# Altium integrated library Project Board Module AM625.IntLib: 43 symbols (part 2 of 2)
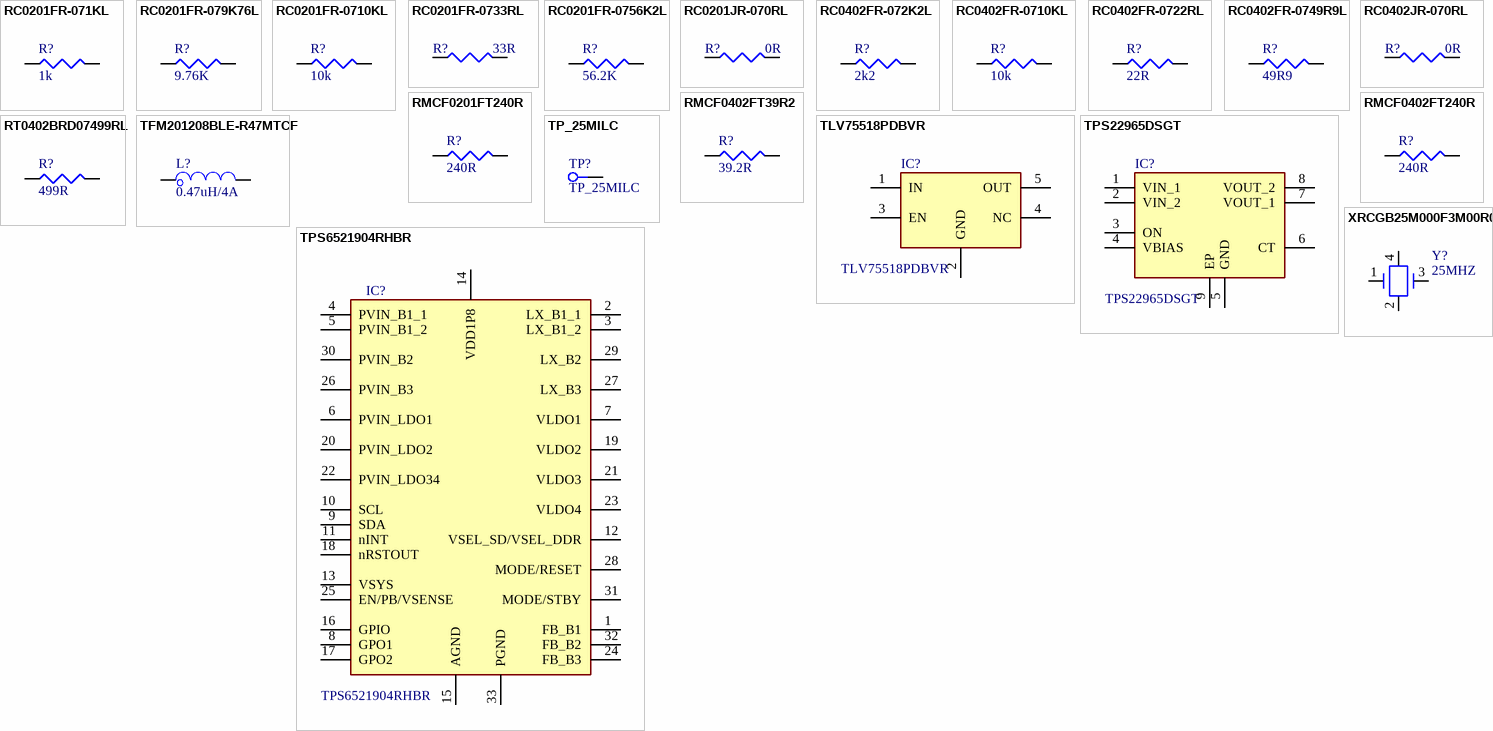
[diagram p8: symbols RC0201FR-071KL to XRCGB25M000F3M00R0]

## RC0402FR-0749R9L
designator R?, comment 49R9
RES 49.9 OHM 1/16W 1% 0402 SMD; Manufacturer: Yageo; Manufacturer Part Number: RC0402FR-0749R9L; Resistance (Ohms): 49.9; Power (Watts): 0.063W, 1/16W; Value: 49.9R; .Checked PCB: used; Temperature Coefficient: ±100ppm/°C; Category: Resistors; Supplier Part Number: 311-49.9LRCT-ND; Package / Case: 0402 (1005 Metric); Price 1k [$]: 0.01421; Tolerance: ±1%; .Checked SCH: used; Supplier: Digikey; Supplier 1: Digi-Key; Supplier Part Number 1: 311-49.9LRCT-ND; RoHS: RoHS Compliant; Stock 1: 235950; Pricing 1: 10=0.014, 50=0.0104, 100=0.0079, 250=0.00584, 500=0.00432, 1000=0.00288 (USD); Composition: Thick Film; Features: -; Size / Dimension: 0.039" L x 0.020" W (1.00mm x 0.50mm); Height: 0.016" (0.40mm); Number of Terminations: 2; Packaging: Cut Tape (CT); ComponentLink1URL: http://www.yageo.com/documents/recent/PYu-RC0402_51_RoHS_L_6.pdf; ComponentLink1Description: http://www.yageo.com/documents/recent/PYu-RC0402_51_RoHS_L_6.pdf
footprint R0402
pins: 1, 2

## RC0402JR-070RL
designator R?, comment 0R
RES 0.0 OHM 1/16W 0402 SMD; Manufacturer: Yageo; Manufacturer Part Number: RC0402JR-070RL; Resistance (Ohms): 0.0; Power (Watts): 0.063W, 1/16W; Tolerance: Jumper; .Checked PCB: used; Category: Resistors; Supplier Part Number: 311-0.0JRCT-ND; Package / Case: 0402 (1005 Metric); Price 1k [$]: 0.01389; Value: 0R; .Checked SCH: used; Supplier: Digikey; Supplier 1: Digi-Key; Supplier Part Number 1: 311-0.0JRCT-ND; RoHS: RoHS Compliant; Stock 1: 1106330; Pricing 1: 10=0.012, 50=0.009, 100=0.0069, 250=0.00512, 500=0.0038, 1000=0.00253 (USD); Composition: Thick Film; Features: -; Temperature Coefficient: -; Size / Dimension: 0.039" L x 0.020" W (1.00mm x 0.50mm); Height: 0.016" (0.40mm); Number of Terminations: 2; Packaging: Cut Tape (CT); ComponentLink1URL: http://www.yageo.com/documents/recent/PYu-RC0402_51_RoHS_L_6.pdf; ComponentLink1Description: http://www.yageo.com/documents/recent/PYu-RC0402_51_RoHS_L_6.pdf
footprint R0402
pins: 1, 2

## RMCF0201FT240R
designator R?, comment 240R
RES 240 OHM 1/20W 1% 0201; Manufacturer: Stackpole Electronics Inc; Manufacturer Part Number: RMCF0201FT240R; Resistance (Ohms): 240; Power (Watts): 0.05W, 1/20W; Temperature Coefficient: ±200ppm/°C; .Creator: MM; Supplier 1: Digi-Key; RoHS: RoHS Compliant; Category: Resistors; Stock 1: 37080; Pricing 1: 1=0.12, 10=0.084, 50=0.046, 100=0.035, 250=0.026, 500=0.0192, 1000=0.0128, 2500=0.0108, 5000=0.009 (USD); Packaging: Cut Tape (CT); Tolerance: ±1%; Composition: Thick Film; Features: -; Package / Case: 0201 (0603 Metric); Supplier Device Package: 0201; Size / Dimension: 0.024" L x 0.012" W (0.60mm x 0.30mm); Height: 0.009" (0.24mm); Number of Terminations: 2; ComponentLink1URL: http://www.seielect.com/Catalog/SEI-RMCF_RMCP.pdf; ComponentLink1Description: http://www.seielect.com/Catalog/SEI-RMCF_RMCP.pdf; Supplier Part Number 1: RMCF0201FT240RCT-ND; .Checked PCB: MM; .Checked SCH: MM
footprint R0201 (Creator MM)
pins: 1, 2

## RMCF0402FT39R2
designator R?, comment 39.2R
RES 39.2 OHM 1% 1/16W 0402; Manufacturer: Stackpole Electronics; Manufacturer Part Number: RMCF0402FT39R2; Max Power Dissipation: 63mW; Temperature Coefficient: 100ppm/°C; Supplier 1: Digi-Key; Stock 1: 220000; Pricing 1: 10000=0.0028, 20000=0.0025, 30000=0.0023, 50000=0.0021, 100000=0.0019 (USD); Mount: Surface Mount; Case/Package: 0402; Case Code (Metric): 1005; Case Code (Imperial): 0402; Contact Plating: Tin,Matte; Min Operating Temperature: -55°C; Max Operating Temperature: 155°C; Resistance: 39.2R; Tolerance: 1%; Packaging: Tape and Reel; Resistor Type: Thick Film; Number of Terminations: 2; Features: Automotive AEC-Q200; Series: RMCF; Length: 0.039inch; Width: 0.02inch; Height: 0.016inch; Radiation Hardening: No; Lead Free: Lead Free; RoHS Compliant: Yes; ComponentLink1URL: https://www.seielect.com/catalog/SEI-RMCF_RMCP.pdf?src-supplier=Avnet; ComponentLink1Description: https://www.seielect.com/catalog/SEI-RMCF_RMCP.pdf?src-supplier=Avnet; ComponentLink2URL: https://www.seielect.com/catalog/SEI-Packaging.pdf?src-supplier=Digi-Key; ComponentLink2Description: https://www.seielect.com/catalog/SEI-Packaging.pdf?src-supplier=Digi-Key; ComponentLink3URL: https://www.seielect.com/catalog/sei-rmcf_rmcp.pdf?src-supplier=Digi-Key; ComponentLink3Description: https://www.seielect.com/catalog/sei-rmcf_rmcp.pdf?src-supplier=Digi-Key; Supplier Part Number 1: RMCF0402FT39R2TR-ND
footprint R0402
pins: 1, 2

## RMCF0402FT240R
designator R?, comment 240R
RES TF 240 OHM 1% 0.0625W 0402; Manufacturer: Stackpole Electronics Inc; Manufacturer Part Number: RMCF0402FT240R; Resistance (Ohms): 240; Power (Watts): 0.063W, 1/16W; .Checked PCB: used; Temperature Coefficient: ±100ppm/°C; Category: Resistors; Supplier Part Number: RMCF0402FT240RCT-ND; Package / Case: 0402 (1005 Metric); Price 1k [$]: 0.00384; Tolerance: ±1%; Value: 240R; .Checked SCH: used; Supplier: Digikey; Supplier 1: Digi-Key; Supplier Part Number 1: RMCF0402FT240RCT-ND; RoHS: RoHS Compliant; Stock 1: 39860; Pricing 1: 1=0.04, 10=0.025, 50=0.0138, 100=0.0105, 250=0.0078, 500=0.00576, 1000=0.00384 (USD); Composition: Thick Film; Features: -; Size / Dimension: 0.039" L x 0.020" W (1.00mm x 0.50mm); Height: 0.016" (0.40mm); Number of Terminations: 2; Packaging: Cut Tape (CT); ComponentLink1URL: http://www.seielect.com/Catalog/SEI-RMCF.pdf; ComponentLink1Description: http://www.seielect.com/Catalog/SEI-RMCF.pdf
footprint R0402
pins: 1, 2

## RT0402BRD07499RL
designator R?, comment 499R
RES SMD 499 OHM 0.1% 1/16W 0402; Manufacturer: Yageo; Manufacturer Part Number: RT0402BRD07499RL; Power Rating: 62.5mW; Voltage Rating: 50V; Max Power Dissipation: 63mW; Temperature Coefficient: 25ppm/°C; Supplier 1: Digi-Key; Stock 1: 20000; Pricing 1: 10000=0.0411, 30000=0.0391, 50000=0.0383, 100000=0.0375 (USD); Case/Package: 0402; Case Code (Metric): 1005; Case Code (Imperial): 0402; Size Code: 0402; Min Operating Temperature: -55°C; Max Operating Temperature: 155°C; Package Quantity: 10000; Packaging: Tape and Reel; Resistance: 499R; Tolerance: 0.1%; Resistor Type: Thin Film; Number of Terminations: 2; Termination: SMD/SMT; Voltage Rating (DC): 50V; Features: Moisture Resistant; Series: RT; Length: 0.039inch; Width: 0.02inch; Height: 0.014inch; Lead Free: Lead Free; RoHS Compliant: Yes; ComponentLink1URL: https://datasheet.ciiva.com/12724/pyu-rt-1-to-0-05-rohs-l-4-12724797.pdf?src-supplier=Mouser; ComponentLink1Description: https://datasheet.ciiva.com/12724/pyu-rt-1-to-0-05-rohs-l-4-12724797.pdf?src-supplier=Mouser; ComponentLink2URL: https://datasheet.ciiva.com/2582/pyu-rt-1-to-0-05-rohs-l-4-2582397.pdf?src-supplier=Digi-Key; ComponentLink2Description: https://datasheet.ciiva.com/2582/pyu-rt-1-to-0-05-rohs-l-4-2582397.pdf?src-supplier=Digi-Key; ComponentLink3URL: https://datasheet.ciiva.com/46635/pyu-rt-1-to-0-05-rohs-l-5-46635222.pdf?src-supplier=Digi-Key; ComponentLink3Description: https://datasheet.ciiva.com/46635/pyu-rt-1-to-0-05-rohs-l-5-46635222.pdf?src-supplier=Digi-Key; Supplier Part Number 1: YAG1440TR-ND
footprint R0402
pins: 1, 2

## TFM201208BLE-R47MTCF
designator L?, comment 0.47uH/4A
470 nH Shielded Thin Film Inductor 4 A 29mOhm Max 0805 (2012 Metric); Manufacturer: TDK; Manufacturer Part Number: TFM201208BLE-R47MTCF; Supplier 1: Digi-Key; Stock 1: 2175; Pricing 1: 1=0.55, 10=0.507, 25=0.4288, 50=0.3898, 100=0.3664, 250=0.3274, 500=0.2807, 1000=0.2495 (USD); Supplier Part Number 1: 445-TFM201208BLE-R47MTCFDKR-ND
footprint FP-TFM201208BLE-R47MTCF_0805-MFG
pins: 1, 2

## TLV75518PDBVR
designator IC?
IC REG LINEAR 1.8V 500MA SOT23-5; Manufacturer_Name: Texas Instruments; Output Type: Fixed; Output Configuration: Positive; Number of Regulators: 1; Max Input Voltage: 5.5V; Quiescent Current: 31uA; Power Supply Rejection Ratio (PSRR): 52dB; Max Output Voltage: 3.3V; Dropout Voltage: 400mV; Datasheet Link: http://www.ti.com/lit/gpn/tlv755p; Height: 1.45mm; Manufacturer_Part_Number: TLV75518PDBVR; Mouser Part Number: 595-TLV75518PDBVR; Mouser Price/Stock: https://www.mouser.co.uk/ProductDetail/Texas-Instruments/TLV75518PDBVR?qs=55YtniHzbhCKl5yPgBW9OQ%3D%3D; Arrow Part Number: TLV75518PDBVR; Arrow Price/Stock: https://www.arrow.com/en/products/tlv75518pdbvr/texas-instruments?region=nac; Supplier 1: Digi-Key; Manufacturer: Texas Instruments; Manufacturer Part Number: TLV75518PDBVR; Stock 1: 9000; Pricing 1: 3000=0.1054, 6000=0.0996, 15000=0.0908, 30000=0.0849, 75000=0.0762 (USD); Mount: Surface Mount; Case/Package: SOT-23-5; Min Operating Temperature: -40°C; Max Operating Temperature: 125°C; Min Output Voltage: 1.8V; Output Current: 500mA; Packaging: Cut Tape; ComponentLink1URL: http://www.ti.com/lit/ds/symlink/tlv755p.pdf?src-supplier=Digi-Key; ComponentLink1Description: http://www.ti.com/lit/ds/symlink/tlv755p.pdf?src-supplier=Digi-Key; ComponentLink2URL: http://www.ti.com/general/docs/suppproductinfo.tsp?distId=10&amp;gotoUrl=http%3A%2F%2Fwww.ti.com%2Flit%2Fgpn%2Ftlv755p&src-supplier=Digi-Key; ComponentLink2Description: http://www.ti.com/general/docs/suppproductinfo.tsp?distId=10&amp;gotoUrl=http%3A%2F%2Fwww.ti.com%2Flit%2Fgpn%2Ftlv755p&src-supplier=Digi-Key; Supplier Part Number 1: 296-50410-2-ND
footprint SOT95P280X145-5N
pins: 1 IN, 2 GND (power), 3 EN, 4 NC, 5 OUT

## TP_25MILC
designator TP?  (no BOM)
Test Point 25mil
footprint TP_25C
pins: 1

## TPS22965DSGT
designator IC?
Integrated Circuit; Manufacturer_Name: Texas Instruments; Output Current: 6A; Number of Outputs: 1; On-State Resistance: 16mR; Turn-Off Delay Time: 80us; Turn-On Delay Time: 2.2ms; Voltage: 5.5V; Quiescent Current: 50uA; Interface: On/Off; Output Configuration: High Side; Datasheet Link: http://www.ti.com/general/docs/suppproductinfo.tsp?distId=10&gotoUrl=http%3A%2F%2Fwww.ti.com%2Flit%2Fgpn%2Ftps22965; Height: 0.8mm; Manufacturer_Part_Number: TPS22965DSGT; Mouser Part Number: 595-TPS22965DSGT; Mouser Price/Stock: https://www.mouser.co.uk/ProductDetail/Texas-Instruments/TPS22965DSGT?qs=VMlqFFbv3sTWjOIm1M%252B0jg%3D%3D; Arrow Part Number: TPS22965DSGT; Arrow Price/Stock: https://www.arrow.com/en/products/tps22965dsgt/texas-instruments?region=nac; Supplier 1: Farnell; Manufacturer: Texas Instruments; Manufacturer Part Number: TPS22965DSGT; Stock 1: 70; Pricing 1: 100=0.547, 250=0.54, 500=0.531, 1000=0.524, 2500=0.516, 5000=0.508 (GBP); Mount: Surface Mount; Number of Pins: 8; Contact Plating: Gold; Weight: 0.000384oz; Min Operating Temperature: -40°C; Max Operating Temperature: 105°C; Packaging: Tape and Reel; Package Quantity: 250; Current: 6A; Number of Channels: 1; Max Supply Voltage: 5.5V; Series: -; Max Output Current: 6A; Length: 2.1mm; Width: 2.1mm; Radiation Hardening: No; Reach SVHC Compliant: Yes; Lead Free: Lead Free; RoHS Compliant: Yes; ComponentLink1URL: https://datasheet.ciiva.com/28652/1787980-28652428.pdf?src-supplier=Element14; ComponentLink1Description: https://datasheet.ciiva.com/28652/1787980-28652428.pdf?src-supplier=Element14; ComponentLink2URL: https://datasheet.ciiva.com/12073/tps22965-213489-12073929.pdf?src-supplier=Mouser; ComponentLink2Description: https://datasheet.ciiva.com/12073/tps22965-213489-12073929.pdf?src-supplier=Mouser; ComponentLink3URL: https://datasheet.ciiva.com/26909/getdatasheetpartid-636510-26909269.pdf?src-supplier=Verical; ComponentLink3Description: https://datasheet.ciiva.com/26909/getdatasheetpartid-636510-26909269.pdf?src-supplier=Verical; ComponentLink4URL: https://datasheet.ciiva.com/46385/1887483-46385450.pdf?src-supplier=Element14; ComponentLink4Description: https://datasheet.ciiva.com/46385/1887483-46385450.pdf?src-supplier=Element14; ComponentLink5URL: https://datasheet.ciiva.com/6608/tps22965-6608203.pdf?src-supplier=Digi-Key; ComponentLink5Description: https://datasheet.ciiva.com/6608/tps22965-6608203.pdf?src-supplier=Digi-Key; ComponentLink6URL: https://datasheet.ciiva.com/6608/tps22965-6608201.pdf?src-supplier=Digi-Key; ComponentLink6Description: https://datasheet.ciiva.com/6608/tps22965-6608201.pdf?src-supplier=Digi-Key; ComponentLink7URL: https://datasheet.ciiva.com/6608/tps22965-6608205.pdf?src-supplier=Digi-Key; ComponentLink7Description: https://datasheet.ciiva.com/6608/tps22965-6608205.pdf?src-supplier=Digi-Key; Supplier Part Number 1: 3124076RL
footprint SON50P200X200X80-9N
pins: 1 VIN_1, 2 VIN_2, 3 ON, 4 VBIAS, 5 GND, 6 CT, 7 VOUT_1, 8 VOUT_2, 9 EP

## TPS6521904RHBR
designator IC?
INTEGRATED POWER MANAGEMENT; Manufacturer_Name: Texas Instruments; Manufacturer_Part_Number: TPS92682QRHMRQ1; Datasheet Link: http://www.ti.com/lit/gpn/TPS92682-Q1; Height: 0.9mm; Mouser Part Number: 595-TPS92682QRHMRQ1; Mouser Price/Stock: https://www.mouser.co.uk/ProductDetail/Texas-Instruments/TPS92682QRHMRQ1?qs=RcG8xmE7yp2UHbI0mG8Vdw%3D%3D; Arrow Part Number: TPS92682QRHMRQ1; Arrow Price/Stock: https://www.arrow.com/en/products/tps92682qrhmrq1/texas-instruments; Supplier 1: Digi-Key; Manufacturer: Texas Instruments; Manufacturer Part Number: TPS6521904RHBR; Stock 1: 0; Pricing 1: 3000=1.4508, 6000=1.3962 (USD); Supplier Part Number 1: 296-TPS6521904RHBRTR-ND
footprint 32-VQFN (5x5)
pins: 1 FB_B1, 2 LX_B1_1, 3 LX_B1_2, 4 PVIN_B1_1, 5 PVIN_B1_2, 6 PVIN_LDO1, 7 VLDO1, 8 GPO1, 9 SDA, 10 SCL, 11 nINT, 12 VSEL_SD/VSEL_DDR, 13 VSYS, 14 VDD1P8, 15 AGND, 16 GPIO, 17 GPO2, 18 nRSTOUT, 19 VLDO2, 20 PVIN_LDO2, 21 VLDO3, 22 PVIN_LDO34, 23 VLDO4, 24 FB_B3, 25 EN/PB/VSENSE, 26 PVIN_B3, 27 LX_B3, 28 MODE/RESET, 29 LX_B2, 30 PVIN_B2, 31 MODE/STBY, 32 FB_B2, 33 PGND

## XRCGB25M000F3M00R0
designator Y?, comment 25MHZ
CRYSTAL 25.0000MHZ 6PF SMD; Manufacturer: Murata; Manufacturer Part Number: XRCGB25M000F3M00R0; ESR (Equivalent Series Resistance): 150R; Frequency Tolerance: 30ppm; Frequency Stability: 40ppm; Supplier 1: Digi-Key; Stock 1: 131079; Pricing 1: 1=0.31, 10=0.256, 50=0.2306, 100=0.205, 500=0.1948, 1000=0.164 (USD); Mount: Surface Mount; Case/Package: SMD/SMT; Number of Pins: 4; Min Operating Temperature: -30°C; Max Operating Temperature: 85°C; Frequency: 25MHz; Load Capacitance: 6pF; Packaging: Tape and Reel; Tolerance: 30ppm; Package Quantity: 1; Termination: SMD/SMT; Series Resistance: 150R; Series: XRCGB; Length: 2mm; Width: 1.6mm; Height: 0.028inch; Depth: 1.6mm; Reach SVHC Compliant: Yes; Lead Free: Lead Free; RoHS Compliant: Yes; ComponentLink1URL: https://datasheet.ciiva.com/18026/getdatasheetpartid-711202-18026505.pdf?src-supplier=Verical; ComponentLink1Description: https://datasheet.ciiva.com/18026/getdatasheetpartid-711202-18026505.pdf?src-supplier=Verical; ComponentLink2URL: https://datasheet.ciiva.com/1361/p79e-1361519.pdf?src-supplier=Element14; ComponentLink2Description: https://datasheet.ciiva.com/1361/p79e-1361519.pdf?src-supplier=Element14; ComponentLink3URL: https://datasheet.ciiva.com/22695/p79e-22695438.pdf?src-supplier=Element14; ComponentLink3Description: https://datasheet.ciiva.com/22695/p79e-22695438.pdf?src-supplier=Element14; ComponentLink4URL: https://datasheet.ciiva.com/852/p79e-852299.pdf?src-supplier=Digi-Key; ComponentLink4Description: https://datasheet.ciiva.com/852/p79e-852299.pdf?src-supplier=Digi-Key; ComponentLink5URL: https://datasheet.ciiva.com/852/p79e-852298.pdf?src-supplier=Digi-Key; ComponentLink5Description: https://datasheet.ciiva.com/852/p79e-852298.pdf?src-supplier=Digi-Key; ComponentLink6URL: https://datasheet.ciiva.com/852/p79e-852300.pdf?src-supplier=Digi-Key; ComponentLink6Description: https://datasheet.ciiva.com/852/p79e-852300.pdf?src-supplier=Digi-Key; Supplier Part Number 1: 490-5578-6-ND
footprint XRCGB25M000F3M00R0
pins: 1, 2, 3, 4